# Altium schematic symbol library ADAFRUIT_QT_PY.SCHLIB: 1 symbol
Pins are listed as number, name and electrical type; pins without a type are passive.

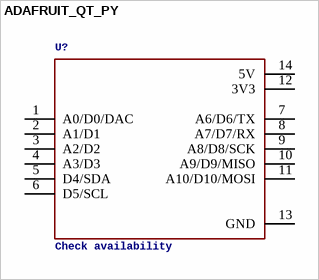
[diagram p0: symbol ADAFRUIT_QT_PY]

## ADAFRUIT_QT_PY
designator U?, comment Check availability
GateName_1: G$1; SymbolName_1: ADAFRUIT_QT_PY; MP: Adafruit QT Py; Description: Castellated Pads - SAMD21 Dev Board with STEMMA QT; MF: Adafruit Industries; LibraryName: ADAFRUIT_QT_PY; DeviceSetName: ADAFRUIT_QT_PY; Package: Package; Availability: Not in stock; Price: None
footprint MODULE_ADAFRUIT_QT_PY
pins: 1 A0/D0/DAC, 2 A1/D1, 3 A2/D2, 4 A3/D3, 5 D4/SDA, 6 D5/SCL, 7 A6/D6/TX, 8 A7/D7/RX, 9 A8/D8/SCK, 10 A9/D9/MISO, 11 A10/D10/MOSI, 12 3V3 (power), 13 GND (power), 14 5V (power)